# Altium integrated library GRM152R60J104KE19D.IntLib: 1 symbol
Pins are listed as number, name and electrical type; pins without a type are passive.

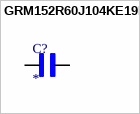
[diagram p0: symbol GRM152R60J104KE19D]

## GRM152R60J104KE19D
designator C?
SMD Capacitor X5R(EIA) with Capacitance: 0.10uF Tol. 10%. Rated Voltage: 6.3Vdc; MF: Murata; MP: GRM152R60J104KE19D; SnapEDA_Link: https://www.snapeda.com/parts/GRM152R60J104KE19D/Murata/view-part/?ref=snap; Package: 1005 Murata; Value: *; Check_prices: https://www.snapeda.com/parts/GRM152R60J104KE19D/Murata/view-part/?ref=eda
footprint CAPC1005X22N
pins: 1, 2